# Altium footprint library PcbLib1.PcbLib: 42 footprints (part 3 of 3)
Each footprint in its own frame and in the unit in brackets; x right, y up, seen from the top. Pads: shape width x height; smd on the part's side, far side on the other; paste and mask are expansions set on the pad; w line width, h text height; cw(c..) or ccw(c..) is an arc to the next point about the centre after c.
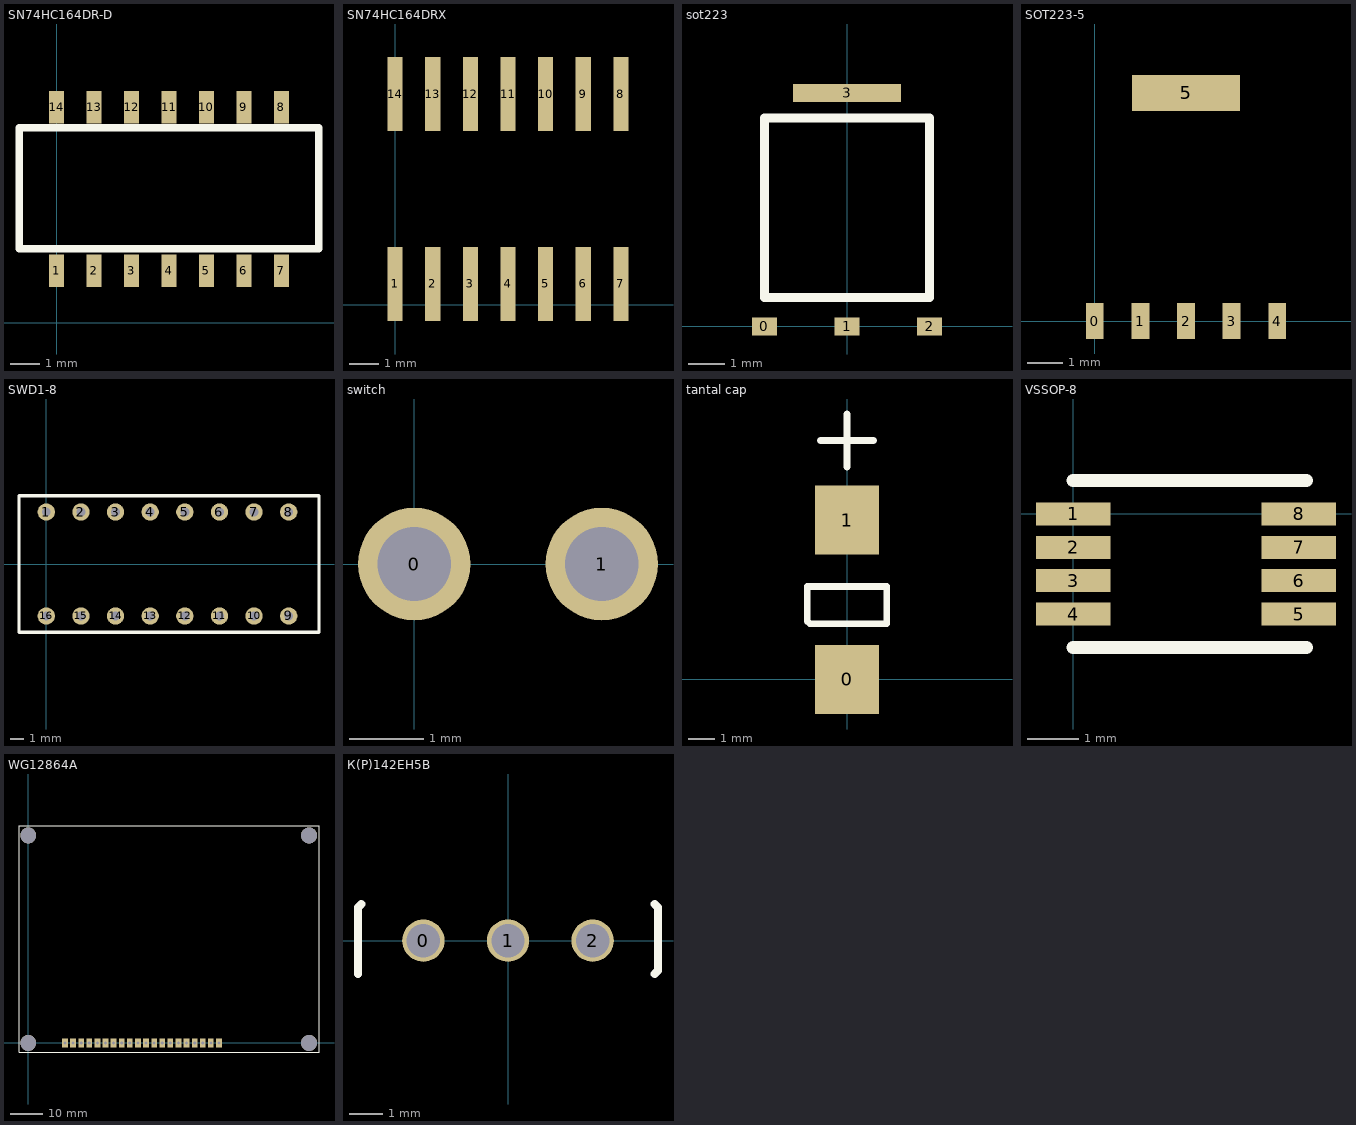
[diagram p2: the footprints below, top view; thin cyan lines are the x and y axes]

## SN74HC164DR-D [mm]
pads (14):
  rect 0.51x1.1 smd mask+0.05: 1(0,1.75) 2(1.27,1.75) 3(2.54,1.75) 4(3.81,1.75) 5(5.08,1.75) 6(6.35,1.75) 7(7.62,1.75) 8(7.62,7.3) 9(6.35,7.3) 10(5.08,7.3) 11(3.81,7.3) 12(2.54,7.3) 13(1.27,7.3) 14(0,7.3)
Top Overlay:
  lines w0.254: -1.27,2.5 8.89,2.5 8.89,6.6 -1.27,6.6 -1.27,2.5

## SN74HC164DRX [mm]
pads (14):
  rect 0.51x2.5 smd mask+0.05: 1(0,0.7) 2(1.27,0.7) 3(2.54,0.7) 4(3.81,0.7) 5(5.08,0.7) 6(6.35,0.7) 7(7.62,0.7) 8(7.62,7.1) 9(6.35,7.1) 10(5.08,7.1) 11(3.81,7.1) 12(2.54,7.1) 13(1.27,7.1) 14(0,7.1)

## sot223 [mm]
pads (4):
  rect 0.7x0.5 smd mask+0.05: 0(-2.3,0) 1(0,0) 2(2.3,0)
  rect 3x0.5 smd mask+0.05: 3(0,6.5)
Top Overlay:
  lines w0.254: -2.3,0.8 -2.3,5.8 2.3,5.8 2.3,0.8 -2.3,0.8

## SOT223-5 [mm]
pads (6):
  rect 0.5x1 smd mask+0.05: 0(0,0) 1(1.27,0) 2(2.54,0) 3(3.81,0) 4(5.08,0)
  rect 3x1 smd mask+0.05: 5(2.54,6.35)

## SWD1-8 [mm]
pads (16):
  round 1.27 / inner rect 0.8x2.54 / far side round 1.27 hole 0.65: 1(0,3.81) 2(2.54,3.81) 3(5.08,3.81) 4(7.62,3.81) 5(10.16,3.81) 6(12.7,3.81) 7(15.24,3.81) 8(17.78,3.81) 9(17.78,-3.81) 10(15.24,-3.81) 11(12.7,-3.81) 12(10.16,-3.81) 13(7.62,-3.81) 14(5.08,-3.81) 15(2.54,-3.81) 16(0,-3.81)
Top Overlay:
  lines w0.254: -2,-5 -2,5 20,5 20,-5 -2,-5

## switch [mil]
pads (2):
  round 60 hole 39.37 mask+1.97: 0(0,0) 1(100,0)

## tantal cap [mm]
pads (2):
  rect 2.4x2.6 smd mask+0.05: 0(0,0) 1(0,6)
Top Overlay:
  lines w0.254: -1,9 1,9 ; 0,8 0,10 ; -1.5,2.2 -1.5,3.5 1.5,3.5 1.5,2.1 -1.4,2.1 -1.5,2.2

## VSSOP-8 [mm]
pads (8):
  rect 1.45x0.45 smd mask+0.05: 1(0,0) 2(0,-0.65) 3(0,-1.3) 4(0,-1.95) 5(4.4,-1.95) 6(4.4,-1.3) 7(4.4,-0.65) 8(4.4,0)
Top Overlay:
  lines w0.254: 0,-2.6 4.55,-2.6 ; 0,0.65 0.65,0.65 4.55,0.65

## WG12864A [mm]
pads (24):
  rect 1.8x2.75 hole 1 paste+0: 0(59.76,0)
  rect 1.8x2.75 hole 1: 1(57.22,0) 2(54.68,0) 3(52.14,0) 4(49.6,0) 5(47.06,0) 6(44.52,0) 7(41.98,0) 8(39.44,0) 9(36.9,0) 10(34.36,0) 11(31.82,0) 12(29.28,0) 13(26.74,0) 14(24.2,0) 15(21.66,0) 16(19.12,0) 17(16.58,0) 18(14.04,0) 19(11.5,0)
  round 5 hole 5 unplated: hole(0,65) hole4(0,0)
  round 5 hole 5: hole1(88,65) hole2(88,0)
Top Overlay:
  lines w0.254: -2.9,-3 -2.9,68.1 91.1,68.1 91.1,-3 -2.9,-3

## К(Р)142ЕН5В [mm]
pads (3):
  round 1.27 / inner oval 0.4x0.3 / far side round 1.27 hole 1 mask+0.05: 0(-2.54,0) 1(0,0) 2(2.54,0)
Top Overlay:
  lines w0.254: -4.5,-1 -4.5,1 -4.4,1.1 ; 4.4,-1 4.5,-0.9 4.5,1 4.4,1.1